# Altium footprint library Devel_Airscout_PCB_LibV3.0.PcbLib: 67 footprints (part 2 of 5)
Each footprint in its own frame and in the unit in brackets; x right, y up, seen from the top. Pads: shape width x height; smd on the part's side, far side on the other; paste and mask are expansions set on the pad; w line width, h text height; cw(c..) or ccw(c..) is an arc to the next point about the centre after c.
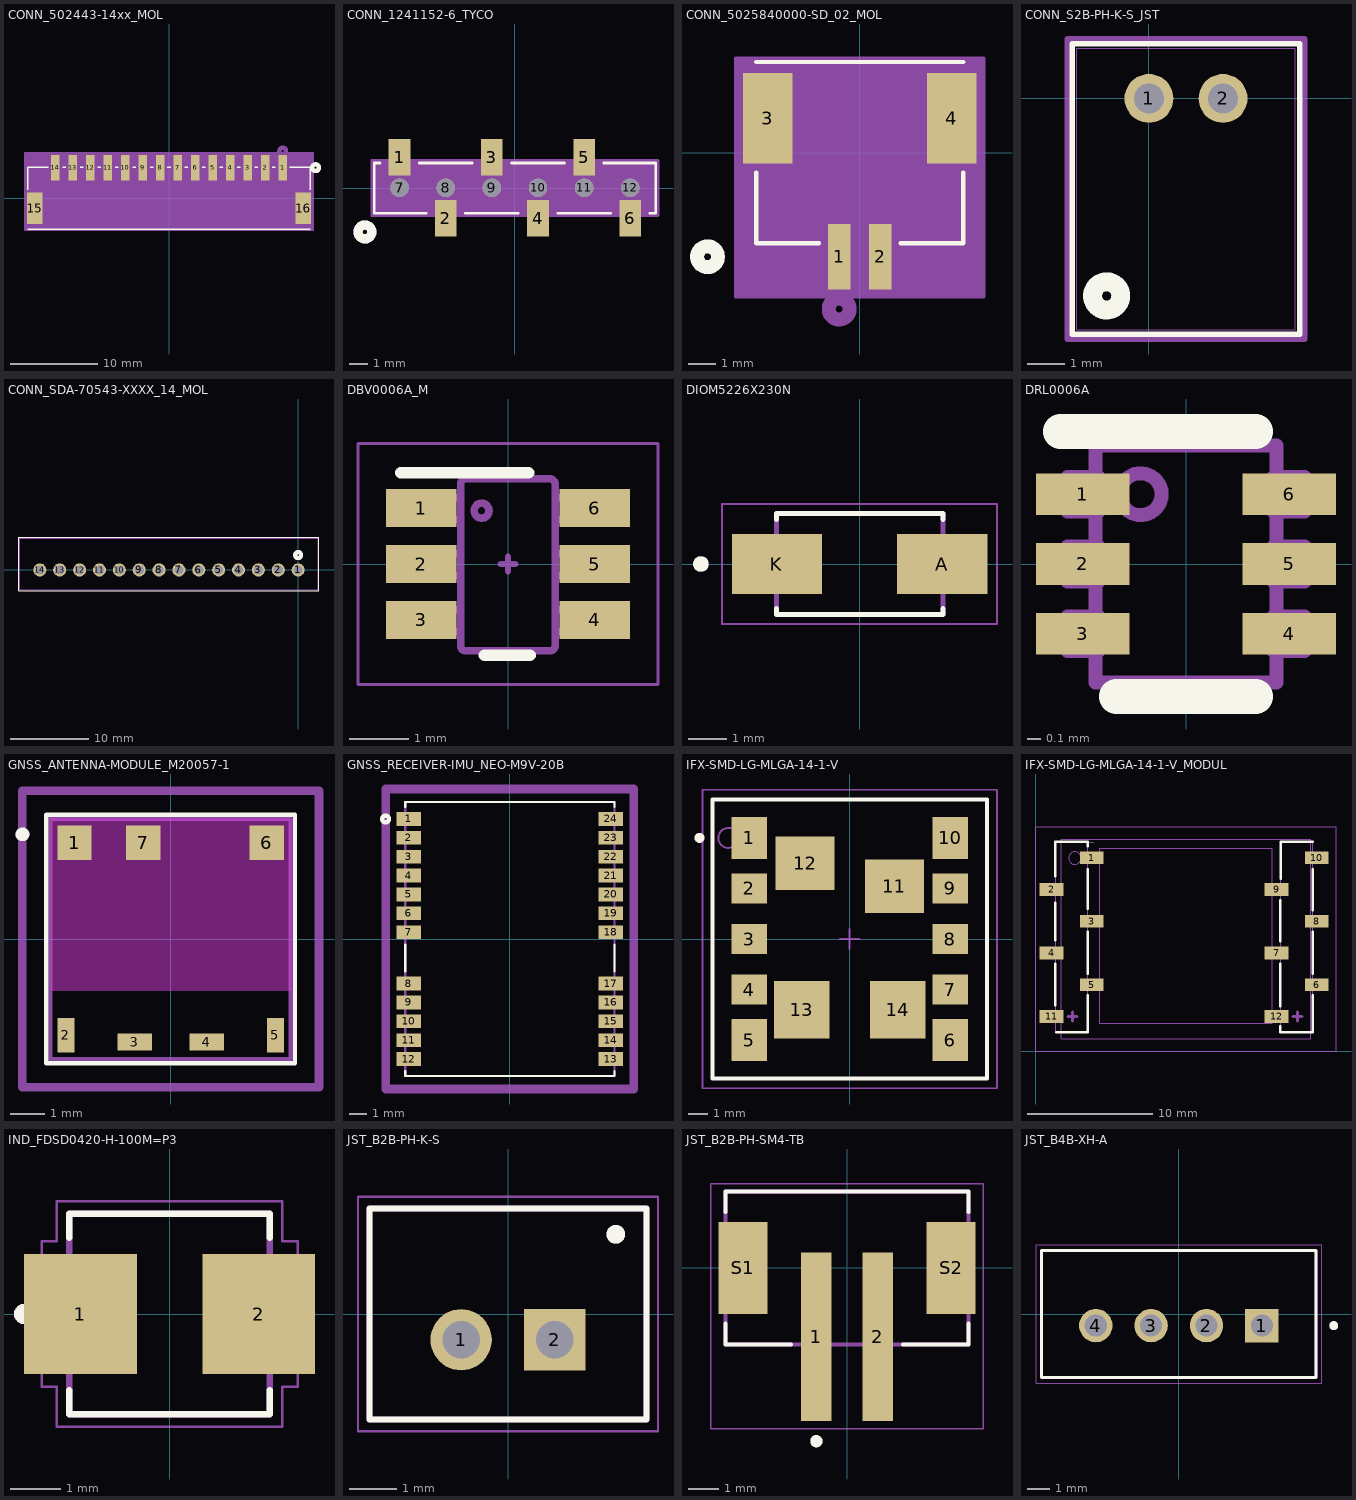
[diagram p1: the footprints below, top view; thin cyan lines are the x and y axes]

## CONN_502443-14xx_MOL [mil]
pads (16):
  rect 39x114 smd paste+0 mask+0: 1(511.81,136.97) 2(433.07,136.97) 3(354.33,136.97) 4(275.59,136.97) 5(196.85,136.97) 6(118.11,136.97) 7(39.37,136.97) 8(-39.37,136.97) 9(-118.11,136.97) 10(-196.85,136.97) 11(-275.59,136.97) 12(-354.33,136.97) 13(-433.07,136.97) 14(-511.81,136.97)
  rect 71x142 smd paste-71 mask-71: 15(-604.33,-46.1) 16(604.33,-46.1)
Top Overlay:
  circle w20: c660,136.97 r15
  lines w6: -635,-140 635,-140 ; -635,38 -635,140 -544.41,140 ; -479.21,140 -465.67,140 ; -400.47,140 -386.93,140 ; -321.73,140 -308.19,140 ; -242.99,140 -229.45,140 ; -164.25,140 -150.71,140 ; -85.51,140 -71.97,140 ; -6.77,140 6.77,140 ; 71.97,140 85.51,140 ; 150.71,140 164.25,140 ; 229.45,140 242.99,140 ; 308.19,140 321.73,140 ; 386.93,140 400.47,140 ; 465.67,140 479.21,140 ; 544.41,140 635,140 635,38
Bottom Overlay:
  circle w20: c660,136.97 r15
Mechanical 13:
  circle w20: c511.81,211.97 r15
  lines w1: -630,-135 630,-135 630,135 -630,135 -630,-135
Mechanical 15:
  region: 649.83,203.97 -649.83,203.97 -649.83,-145 649.83,-145
  lines w6: -649.83,-145 -649.83,203.97 649.83,203.97 649.83,-145 -649.83,-145
3D body "5024431470.stp": height 296.1, standoff 0.83, extent -629.92,-139.92 629.92,163.23

## CONN_1241152-6_TYCO [mil]
pads (12):
  rect 47.24x78.74 smd paste+0 mask+1: 1(-250,66.5) 2(-150,-65.5) 3(-50,66.5) 4(50,-65.5) 5(150,66.5) 6(250,-65.5)
  round 40 hole 40 paste-99999 mask+0: 7(-250,0.5) 8(-150,0.5) 9(-50,0.5) 10(50,0.5) 11(150,0.5) 12(250,0.5)
Top Overlay:
  circle w20: c-325,-95 r15
  lines w6: -292.6,54.5 -305,54.5 -305,-54.5 -192.6,-54.5 ; -207.4,54.5 -92.6,54.5 ; -107.4,-54.5 7.4,-54.5 ; -7.4,54.5 107.4,54.5 ; 92.6,-54.5 207.4,-54.5 ; 192.6,54.5 305,54.5 305,-54.5 292.6,-54.5
Bottom Overlay:
  circle w20: c-325,-95 r15
Mechanical 13:
  circle w20: c-325,-95 r15
  lines w1: -300,-49.5 -300,49.5 300,49.5 300,-49.5 -300,-49.5
Mechanical 15:
  region: 310,59.5 -310,59.5 -310,-59.5 310,-59.5
  lines w6: -310,-59.5 310,-59.5 310,59.5 -310,59.5 -310,-59.5
3D body "NPTC061KFXC-RC.STEP": height 295, standoff 0, extent -300,-89.5 300,79.5

## CONN_5025840000-SD_02_MOL [mil]
pads (4):
  rect 32x94 smd paste+0 mask+0: 1(-29.53,-149.41) 2(29.53,-149.41)
  rect 71x130 smd paste-65 mask-65: 3(-131.89,49.41) 4(131.89,49.41)
Top Overlay:
  circle w20: c-218.5,-149.41 r15
  lines w6: -148.5,-28.69 -148.5,-130 -58.63,-130 ; -148.5,130 148.5,130 ; 58.63,-130 148.5,-130 148.5,-28.69
Bottom Overlay:
  circle w20: c-218.5,-149.41 r15
Mechanical 13:
  circle w20: c-29.53,-224.41 r15
  lines w1: -143.5,-125 143.5,-125 143.5,125 -143.5,125 -143.5,-125
Mechanical 15:
  region: 177.39,135 -177.39,135 -177.39,-206.41 177.39,-206.41
  lines w6: -177.39,-206.41 -177.39,135 177.39,135 177.39,-206.41 -177.39,-206.41
3D body "5025840260.stp": height 285.2, standoff -2.2, extent -142.4,-175.2 145,125.2

## CONN_S2B-PH-K-S_JST [mil]
pads (2):
  round 52 hole 32 paste-99999 mask+0: 1(0,0) 2(78.74,0)
Top Overlay:
  circle w20: c-45,-210 r15
  lines w6: -81.63,-250.85 -81.63,58.15 160.37,58.15 160.37,-250.85 -81.63,-250.85
Bottom Overlay:
  circle w20: c-45,-210 r15
Mechanical 13:
  circle w20: c0,0 r15
  lines w1: -76.63,-245.85 -76.63,53.15 155.37,53.15 155.37,-245.85 -76.63,-245.85
Mechanical 15:
  lines w6: -86.63,-255.85 165.37,-255.85 165.37,63.15 -86.63,63.15 -86.63,-255.85
3D body "S2B-PH-K-S.STEP": height 188.98, standoff -133.19, extent -77.28,-244.21 155,55

## CONN_SDA-70543-XXXX_14_MOL [mil] "0705430013"
pads (14):
  round 66 hole 46: 1(0,0) 2(-100,0) 3(-200,0) 4(-300,0) 5(-400,0) 6(-500,0) 7(-600,0) 8(-700,0) 9(-800,0) 10(-900,0) 11(-1000,0) 12(-1100,0) 13(-1200,0) 14(-1300,0)
Top Overlay:
  lines w6: -1405,-105 -1405,165 105,165 105,-105 -1405,-105
  lines w20: -15,74.8 cw(c0,74.8) 15,74.8 cw(c0,74.8) -15,74.8
Mechanical 13:
  lines w6: -1400,-100 -1400,160 100,160 100,-100 -1400,-100
  lines w20: -15,75 cw(c0,75) 15,75 cw(c0,75) -15,75
3D body "705430013.stp": height 450, standoff -145, extent -1400,-100 100,160

## DBV0006A_M [mm]
pads (6):
  rect 1.2x0.65 smd paste+0 mask+0.051: 1(-1.475,0.95) 2(-1.475,0) 3(-1.475,-0.95) 4(1.475,-0.95) 5(1.475,0) 6(1.475,0.95)
Top Overlay:
  lines w0.2: -1.825,1.55 0.35,1.55 ; -0.4,-1.55 0.375,-1.55
Mechanical 13:
  lines w0.127: 0.724,-1.475 ccw(c0.723,-1.399) 0.8,-1.399 0.8,1.37 ccw(c0.723,1.37) 0.724,1.446 ; 0.723,-1.475 -0.724,-1.475 -0.725,-1.475 cw(c-0.724,-1.399) -0.801,-1.399 -0.801,1.37 cw(c-0.724,1.37) -0.725,1.446 -0.724,1.446 0.723,1.446 ; 0.723,-1.475 0.724,-1.475 ; 0.723,1.446 0.724,1.446 ; -1.423,-1.154 -1.423,-0.78 -1.206,-0.78 -1.113,-0.78 -1.081,-0.78 -0.828,-0.78 -0.801,-0.78 -0.801,-1.154 -0.828,-1.154 -1.081,-1.154 -1.113,-1.154 -1.206,-1.154 -1.423,-1.154 ; -1.423,-0.202 -1.423,0.173 -1.206,0.173 -1.113,0.173 -1.081,0.173 -0.828,0.173 -0.801,0.173 -0.801,-0.202 -0.828,-0.202 -1.081,-0.202 -1.113,-0.202 -1.206,-0.202 -1.423,-0.202 ; -1.423,0.751 -1.423,1.125 -1.206,1.125 -1.113,1.125 -1.081,1.125 -0.828,1.125 -0.801,1.125 -0.801,0.751 -0.828,0.751 -1.081,0.751 -1.113,0.751 -1.206,0.751 -1.423,0.751 ; -0.577,0.906 ccw(c-0.45,0.906) -0.323,0.906 ccw(c-0.45,0.906) -0.577,0.906 ; 0.8,-1.154 0.8,-0.78 0.827,-0.78 1.08,-0.78 1.112,-0.78 1.205,-0.78 1.422,-0.78 1.422,-1.154 1.205,-1.154 1.112,-1.154 1.08,-1.154 0.827,-1.154 0.8,-1.154 ; 0.8,-0.202 0.8,0.173 0.827,0.173 1.08,0.173 1.112,0.173 1.205,0.173 1.422,0.173 1.422,-0.202 1.205,-0.202 1.112,-0.202 1.08,-0.202 0.827,-0.202 0.8,-0.202 ; 0.8,0.751 0.8,1.125 0.827,1.125 1.08,1.125 1.112,1.125 1.205,1.125 1.422,1.125 1.422,0.751 1.205,0.751 1.112,0.751 1.08,0.751 0.827,0.751 0.8,0.751
Mechanical 15:
  lines w0.05: -2.55,-2.05 -2.55,2.05 2.55,2.05 2.55,-2.05 -2.55,-2.05
  lines w0.1: -0.127,0 0.127,0 ; 0,-0.127 0,0.127
3D body "DBV0006A.stp": height 1.2, standoff 0, extent -1.4,-1.45 1.4,1.45

## DIOM5226X230N [mm]
height 2.3
pads (2):
  rect 2.33x1.55 smd: A(2.135,0) K(-2.135,0)
Top Overlay:
  circle w0.2: c-4.1,0 r0.1
  lines w0.127: -2.15,-1.15 -2.15,-1.302 2.15,-1.302 2.15,-1.15 ; -2.15,1.15 -2.15,1.302 2.15,1.302 2.15,1.15
Mechanical 13:
  circle w0.2: c-4.1,0 r0.1
  lines w0.127: -2.15,-1.302 2.15,-1.302 2.15,1.302 -2.15,1.302 -2.15,-1.302
Mechanical 15:
  lines w0.05: -3.55,-1.552 3.55,-1.552 3.55,1.552 -3.55,1.552 -3.55,-1.552
3D body "step_temp.STEP": height 2.4, standoff 0, extent -2.598,-1.302 2.598,1.302

## DRL0006A [mm]
pads (6):
  rect 0.67x0.3 smd paste+0 mask+0: 1(-0.74,0.5) 2(-0.74,0) 3(-0.74,-0.5) 4(0.74,-0.5) 5(0.74,0) 6(0.74,0.5)
Top Overlay:
  lines w0.25: -0.9,0.95 0.5,0.95 ; -0.5,-0.95 0.5,-0.95
Mechanical 13:
  circle w0.1: c-0.325,0.5 r0.15
  lines w0.1: -0.65,-0.625 -0.65,-0.85 0.65,-0.85 0.65,-0.625 ; -0.65,-0.375 -0.65,-0.125 ; -0.65,0.125 -0.65,0.375 ; -0.65,0.625 -0.65,0.85 0.65,0.85 0.65,0.625 ; 0.65,-0.375 0.65,0.375 ; -0.85,-0.625 -0.85,-0.375 -0.627,-0.375 -0.627,-0.625 -0.85,-0.625 ; -0.85,-0.125 -0.627,-0.125 -0.627,0.125 -0.85,0.125 -0.85,-0.125 ; -0.85,0.375 -0.85,0.625 -0.627,0.625 -0.627,0.375 -0.85,0.375 ; 0.627,-0.625 0.627,-0.375 0.85,-0.375 0.85,-0.625 0.627,-0.625 ; 0.627,-0.125 0.85,-0.125 0.85,0.125 0.627,0.125 0.627,-0.125 ; 0.627,0.375 0.627,0.625 0.85,0.625 0.85,0.375 0.627,0.375
3D body "DRL0006A.stp": height 0.6, standoff 0, extent -0.8,-0.783 0.8,0.783

## GNSS_ANTENNA-MODULE_M20057-1 [mm] "Footprint for M20057-1"
height 1.1
pads (7):
  rect 1x1 smd: 1(-2.8,2.8) 6(2.8,2.8) 7(-0.8,2.8)
  rect 0.5x1 smd: 2(-3.05,-2.8) 5(3.05,-2.8)
  rect 1x0.5 smd: 3(-1.05,-3) 4(1.05,-3)
Top Overlay:
  circle w0.2: c-4.318,3.048 r0.1
  lines w0.127: -3.62,-3.62 3.62,-3.62 3.62,3.62 -3.62,3.62 -3.62,-3.62
Keep-Out Layer:
  region: 3.5,3.3 2.3,3.3 2.3,2.3 3.5,2.3 3.5,-1.5 -3.5,-1.5 -3.5,2.3 -2.3,2.3 -2.3,3.3 -3.5,3.3 -3.5,3.5 -1.3,3.5 -1.3,2.3 -0.3,2.3 -0.3,3.5 3.5,3.5
  region: 3.5,-1.5 -3.5,-1.5 -3.5,3.5 3.5,3.5
Mechanical 13:
  circle w0.2: c-4.318,3.048 r0.1
  lines w0.127: -3.5,-3.5 3.5,-3.5 3.5,3.5 -3.5,3.5 -3.5,-3.5
Mechanical 15:
  lines w0.25: -4.318,-4.318 4.318,-4.318 4.318,4.318 -4.318,4.318 -4.318,-4.318
  text "M20057-1" at -3.665,4.826 h1
3D body "step_temp.STEP": height 1.1, standoff 0, extent -3.5,-3.5 3.5,3.5

## GNSS_RECEIVER-IMU_NEO-M9V-20B [mm] "Footprint for NEO-M9V-20B Chip"
height 2.6
pads (24):
  rect 1.44x0.8 smd: 1(-5.895,7) 2(-5.895,5.9) 3(-5.895,4.8) 4(-5.895,3.7) 5(-5.895,2.6) 6(-5.895,1.5) 7(-5.895,0.4) 8(-5.895,-2.6) 9(-5.895,-3.7) 10(-5.895,-4.8) 11(-5.895,-5.9) 12(-5.895,-7) 13(5.895,-7) 14(5.895,-5.9) 15(5.895,-4.8) 16(5.895,-3.7) 17(5.895,-2.6) 18(5.895,0.4) 19(5.895,1.5) 20(5.895,2.6) 21(5.895,3.7) 22(5.895,4.8) 23(5.895,5.9) 24(5.895,7)
Top Overlay:
  circle w0.25: c-7.25,7 r0.2
  lines w0.127: -6.1,-7.715 -6.1,-8 6.1,-8 6.1,-7.715 ; -6.1,-1.885 -6.1,-0.315 ; -6.1,7.715 -6.1,8 6.1,8 6.1,7.715 ; 6.1,-1.885 6.1,-0.315
Mechanical 13:
  circle w0.2: c-7.25,7 r0.1
  lines w0.127: -6.1,-8 6.1,-8 6.1,8 -6.1,8 -6.1,-8
Mechanical 15:
  lines w0.5: -7.239,-8.75 -7.239,8.75 7.239,8.75 7.239,-8.75 -7.239,-8.75
  text "NEO-M9V-20B" at -5.332,9.525 h1
3D body "step_temp.STEP": height 2.6, standoff 0, extent -6.1,-8 6.1,8

## IFX-SMD-LG-MLGA-14-1-V [mm] "Module, 2.54 mm Pitch, 14 Pin, 14.00 mm W X 13.80 mm L X 7.68 mm H Body"
height 7.68
pads (14):
  rect 1.8x2.1 smd paste-0.9 mask+0: 1(-5.05,5.08) 5(-5.05,-5.08) 6(5.05,-5.08) 10(5.05,5.08)
  rect 1.8x1.5 smd paste-0.9 mask+0: 2(-5.05,2.54) 3(-5.05,0) 4(-5.05,-2.54) 7(5.05,-2.54) 8(5.05,0) 9(5.05,2.54)
  rect 2.95x2.7 smd paste-1.475 mask+0: 11(2.245,2.655) 12(-2.245,3.805)
  rect 2.8x2.9 smd paste-1.4 mask+0: 13(-2.415,-3.55) 14(2.415,-3.55)
Top Overlay:
  circle w0.25: c-7.55,5.08 r0.125
  lines w0.2: -6.9,-7 -6.9,7 6.9,7 6.9,-7 -6.9,-7
Top Paste:
  region: -3.675,-3.65 -3.675,-4.81 -2.515,-4.81 -2.515,-3.65
  region: -3.675,-2.29 -3.675,-3.45 -2.515,-3.45 -2.515,-2.29
  region: -2.315,-3.65 -2.315,-4.81 -1.155,-4.81 -1.155,-3.65
  region: -2.315,-2.29 -2.315,-3.45 -1.155,-3.45 -1.155,-2.29
  region: 1.155,-3.65 1.155,-4.81 2.315,-4.81 2.315,-3.65
  region: 1.155,-2.29 1.155,-3.45 2.315,-3.45 2.315,-2.29
  region: 2.515,-3.65 2.515,-4.81 3.675,-4.81 3.675,-3.65
  region: 2.515,-2.29 2.515,-3.45 3.675,-3.45 3.675,-2.29
  region: -3.555,3.705 -3.555,2.605 -2.345,2.605 -2.345,3.705
  region: -3.555,5.005 -3.555,3.905 -2.345,3.905 -2.345,5.005
  region: -2.145,3.705 -2.145,2.605 -0.935,2.605 -0.935,3.705
  region: -2.145,5.005 -2.145,3.905 -0.935,3.905 -0.935,5.005
  region: 0.935,2.555 0.935,1.455 2.145,1.455 2.145,2.555
  region: 0.935,3.855 0.935,2.755 2.145,2.755 2.145,3.855
  region: 2.345,2.555 2.345,1.455 3.555,1.455 3.555,2.555
  region: 2.345,3.855 2.345,2.755 3.555,2.755 3.555,3.855
  region: 4.2,-4.155 4.2,-6.005 5.7,-6.005 5.7,-4.155
  region: 4.2,-1.89 4.2,-3.19 5.7,-3.19 5.7,-1.89
  region: 4.2,0.65 4.2,-0.65 5.7,-0.65 5.7,0.65
  region: 4.2,3.19 4.2,1.89 5.7,1.89 5.7,3.19
  region: 4.2,6.005 4.2,4.155 5.7,4.155 5.7,6.005
  region: -5.7,6.005 -5.7,4.155 -4.2,4.155 -4.2,6.005
  region: -5.7,3.19 -5.7,1.89 -4.2,1.89 -4.2,3.19
  region: -5.7,0.65 -5.7,-0.65 -4.2,-0.65 -4.2,0.65
  region: -5.7,-1.89 -5.7,-3.19 -4.2,-3.19 -4.2,-1.89
  region: -5.7,-4.155 -5.7,-6.005 -4.2,-6.005 -4.2,-4.155
Mechanical 3:
  text ".DESIGNATOR" at -3.643,-0.385 h1.2
Mechanical 13:
  circle w0.1: c-6.1,5.08 r0.5
  lines w0.1: -6.9,-7 6.9,-7 6.9,7 -6.9,7 -6.9,-7
Mechanical 15:
  lines w0.1: -0.5,0 0.5,0 ; 0,-0.5 0,0.5 ; -7.4,-7.5 -7.4,7.5 7.4,7.5 7.4,-7.5 -7.4,-7.5
3D body "LG-MLGA-14-1_Z8B00206105_V09_3D.stp": height 7.68, standoff 0, extent -6.9,-7 6.9,7

## IFX-SMD-LG-MLGA-14-1-V_MODUL [mm] "Module, 2.54 mm Pitch, 14 Pin, 14.00 mm W X 13.80 mm L X 7.68 mm H Body"
height 7.68
pads (12):
  rect 1.905x1.02 smd: 1(4.455,15.5) 2(1.25,12.96) 3(4.455,10.42) 4(1.25,7.88) 5(4.455,5.34) 6(22.455,5.34) 7(19.25,7.88) 8(22.455,10.42) 9(19.25,12.96) 10(22.455,15.5) 11(1.25,2.8) 12(19.25,2.8)
Top Overlay:
  lines w0.2: 1.552,3.7 1.552,7 ; 1.552,8.9 1.552,11.9 ; 1.552,14 1.552,16.77 4.122,16.77 4.122,16.4 ; 1.607,1.555 4.147,1.555 4.147,4.505 ; 4.152,6.2 4.152,9.6 ; 4.152,11.4 4.152,14.6 ; 19.552,2 19.552,1.53 22.122,1.53 22.122,4.48 ; 19.552,3.6 19.552,7 ; 19.552,8.8 19.552,12.1 ; 19.582,13.82 19.582,16.77 22.122,16.77 ; 22.152,6.2 22.152,9.6 ; 22.152,11.3 22.152,14.6
Mechanical 1:
  circle w0.1: c3.102,15.475 r0.5
Mechanical 7:
  lines w0.254: 2.561,2.8 3.291,2.8 ; 2.926,2.435 2.926,3.165 ; 20.561,2.8 21.291,2.8 ; 20.926,2.435 20.926,3.165
Mechanical 13:
  lines w0.1: 1.582,16.75 1.582,1.53 4.122,1.53 4.122,16.75 ; 2.082,16.75 4.622,16.75 ; 2,1 22,1 22,17 2,17 2,1 ; 5.1,2.275 18.9,2.275 18.9,16.275 5.1,16.275 5.1,2.275 ; 19.582,1.53 22.122,1.53 22.122,16.77 19.582,16.77 19.582,1.53
Mechanical 15:
  lines w0.1: 0,0 0,0 ; 0,0 0,18 24,18 24,0 2,0 0,0
3D body "NPPC061KFXC-RC--3DModel-STEP-740413.STEP": height 7.49, standoff 0, extent 18.669,1.524 22.962,16.764
3D body "NPPC061KFXC-RC--3DModel-STEP-740413.STEP": height 7.49, standoff 0, extent 0.775,1.524 5.067,16.764

## IND_FDSD0420-H-100M=P3 [mm]
pads (2):
  rect 2.25x2.4 smd: 1(-1.778,0) 2(1.778,0)
Top Overlay:
  circle w0.2: c-2.9,0 r0.1
  lines w0.127: -2,-1.52 -2,-2 2,-2 2,-1.52 ; -2,1.52 -2,2 2,2 2,1.52
Mechanical 13:
  circle w0.2: c-2.9,0 r0.1
  lines w0.127: -2,-2 -2,2 2,2 2,-2 -2,-2
Mechanical 15:
  lines w0.05: -2.55,-1.45 -2.25,-1.45 -2.25,-2.25 2.25,-2.25 2.25,-1.45 2.55,-1.45 2.55,1.45 2.25,1.45 2.25,2.25 -2.25,2.25 -2.25,1.45 -2.55,1.45 -2.55,-1.45
3D body "FDSD0420-H-100M=P3.STEP": height 2, standoff 0, extent -2,-2 2,2

## JST_B2B-PH-K-S [mm]
pads (2):
  round 1.308 hole 0.8: 1(-1,-0.55)
  rect 1.308x1.308 hole 0.8: 2(1,-0.55)
Top Overlay:
  circle w0.2: c2.3,1.7 r0.1
  lines w0.127: -2.95,-2.25 -2.95,2.25 2.95,2.25 2.95,-2.25 -2.95,-2.25
Mechanical 13:
  circle w0.2: c2.3,1.7 r0.1
  lines w0.127: -2.95,-2.25 2.95,-2.25 2.95,2.25 -2.95,2.25 -2.95,-2.25
Mechanical 15:
  lines w0.05: -3.2,-2.5 3.2,-2.5 3.2,2.5 -3.2,2.5 -3.2,-2.5
3D body "step_temp.STEP": height 6, standoff -3.4, extent -2.95,-2.25 2.95,2.25

## JST_B2B-PH-SM4-TB [mm]
height 6.6
pads (4):
  rect 1x5.5 smd: 1(-1,-2.25) 2(1,-2.25)
  rect 1.6x3 smd: S1(-3.4,0) S2(3.4,0)
Top Overlay:
  circle w0.2: c-1,-5.66 r0.1
  lines w0.127: -3.975,-1.82 -3.975,-2.5 -1.82,-2.5 ; -3.975,1.82 -3.975,2.5 3.975,2.5 3.975,1.82 ; 1.82,-2.5 3.975,-2.5 3.975,-1.82
Mechanical 13:
  circle w0.2: c-1,-5.66 r0.1
  lines w0.127: -3.975,-2.5 -3.975,2.5 3.975,2.5 3.975,-2.5 -3.975,-2.5
Mechanical 15:
  lines w0.05: -4.45,-5.25 4.45,-5.25 4.45,2.75 -4.45,2.75 -4.45,-5.25
3D body "step_temp.STEP": height 6.75, standoff 0, extent -3.975,-4.5 3.975,2.5

## JST_B4B-XH-A [mm]
height 7
pads (4):
  rect 1.508x1.508 / inner round 1.508 / far side rect 1.508x1.508 hole 1: 1(3.75,-0.525)
  round 1.508 hole 1: 2(1.25,-0.525) 3(-1.25,-0.525) 4(-3.75,-0.525)
Top Overlay:
  circle w0.2: c7,-0.525 r0.1
  lines w0.127: -6.2,-2.875 6.2,-2.875 6.2,2.875 -6.2,2.875 -6.2,-2.875
Mechanical 13:
  circle w0.2: c7,-0.525 r0.1
  lines w0.127: -6.2,-2.875 6.2,-2.875 6.2,2.875 -6.2,2.875 -6.2,-2.875
Mechanical 15:
  lines w0.05: -6.45,-3.125 6.45,-3.125 6.45,3.125 -6.45,3.125 -6.45,-3.125
3D body "step_temp.STEP": height 7, standoff -3.4, extent -6.2,-2.875 6.2,2.875